# Altium footprint library BoschIMU.PcbLib: 1 footprints
Each footprint in its own frame and in the unit in brackets; x right, y up, seen from the top. Pads: shape width x height; smd on the part's side, far side on the other; paste and mask are expansions set on the pad; w line width, h text height; cw(c..) or ccw(c..) is an arc to the next point about the centre after c.
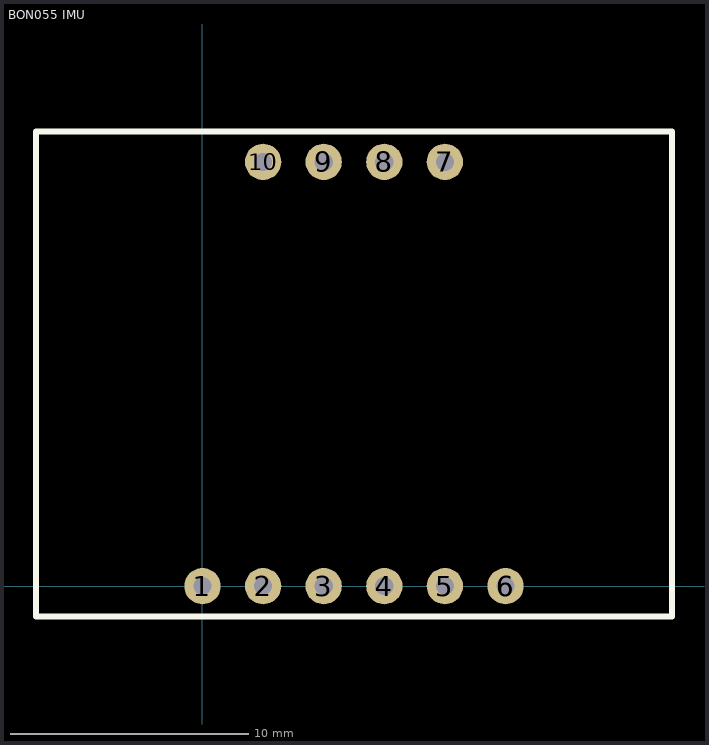
[diagram p0: the footprint, top view; thin cyan lines are the x and y axes]

## BON055 IMU [mil]
pads (11):
  round 60 hole 30: 1(0,0) 2(100,0) 3(200,0) 4(300,0) 5(400,0) 6(500,0) 6(500,0) 7(400,700) 8(300,700) 9(200,700) 10(100,700)
Top Overlay:
  lines w10: -275,-50 775,-50 775,750 -275,750 -275,-50